# Altium footprint library DIP-8.PcbLib: 1 footprints
Each footprint in its own frame and in the unit in brackets; x right, y up, seen from the top. Pads: shape width x height; smd on the part's side, far side on the other; paste and mask are expansions set on the pad; w line width, h text height; cw(c..) or ccw(c..) is an arc to the next point about the centre after c.
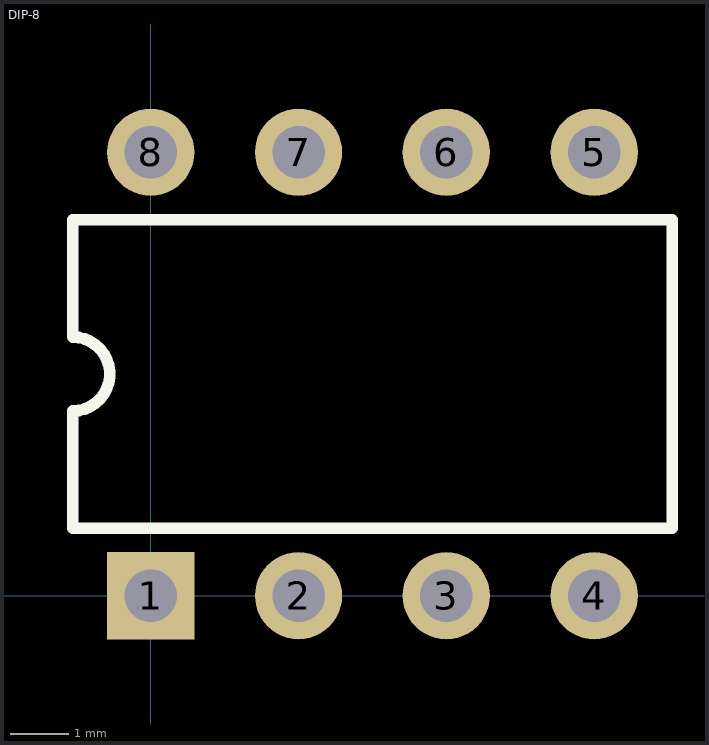
[diagram p0: the footprint, top view; thin cyan lines are the x and y axes]

## DIP-8 [mm]
pads (8):
  rect 1.5x1.5 hole 0.9: 1(0,0)
  round 1.5 hole 0.9: 2(2.54,0) 3(5.08,0) 4(7.62,0) 5(7.62,7.62) 6(5.08,7.62) 7(2.54,7.62) 8(0,7.62)
Top Overlay:
  lines w0.2: -1.34,1.16 8.96,1.16 8.96,6.46 -1.34,6.46 -1.34,4.445 cw(c-1.34,3.81) -1.34,3.175 -1.34,1.16
Top Mechanical 16/Mechanical 17 (Mech16):
  text "'.Designator'" at -1.197,2.898 h2
3D body: height 3.4, standoff 0, extent -1.397,1.143 9.017,6.477